# Altium schematic symbol library OC2321 VQFN8.SchLib: 1 symbol
Pins are listed as number, name and electrical type; pins without a type are passive.

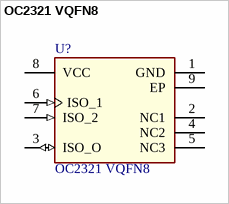
[diagram p0: symbol OC2321 VQFN8]

## OC2321 VQFN8
designator U?
eSIM IoT Solution to Enable Cellular Connectivity; Manufacturer: Infineon Technologies; Manufacturer Order Number: OC2321 VQFN8; Package Reference: PG-VQFN-8-4
pins: 1 GND (power) "Common ground reference", 2 NC1, 3 ISO_O (io) "ISO/IEC 7816-3 [12]: UART_IO", 4 NC2, 5 NC3, 6 ISO_1 (in) "ISO/IEC 7816-3 [12]: UART_CLK", 7 ISO_2 (in) "ISO/IEC 7816-3 [12]: UART_RST", 8 VCC (power) "Power and pad supply (VCC)", 9 EP (power) "Exposed die pad"